# EAGLE library part PE4259 (library angrypig7-IC)
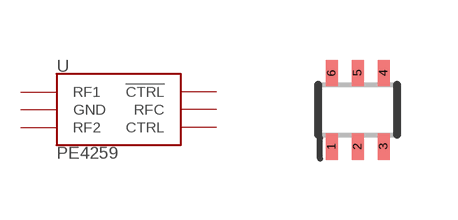
[diagram p12: symbol with the pads of SOT-363(SC-70-6); footprint SOT-363(SC-70-6)]

Designator prefix U

## PE4259  [SOT-363(SC-70-6)]
1  RF1
2  GND
3  RF2
4  CTRL
5  RFC
6  !CTRL

## Footprint SOT-363(SC-70-6) (pad centres in mm)
SC-88/SC70-6/SOT-363 6-pin Package Example Datasheet <http://www.onsemi.com/pub_link/Collateral/MBT3904DW1T1-D.PDF>
smd 0.3 x 0.66: 1 -0.65,-0.92; 2 0,-0.92; 3 0.65,-0.92; 4 0.65,0.92; 5 0,0.92; 6 -0.65,0.92